# Altium footprint library FastServo.PcbLib: 2 footprints
Each footprint in its own frame and in the unit in brackets; x right, y up, seen from the top. Pads: shape width x height; smd on the part's side, far side on the other; paste and mask are expansions set on the pad; w line width, h text height; cw(c..) or ccw(c..) is an arc to the next point about the centre after c.
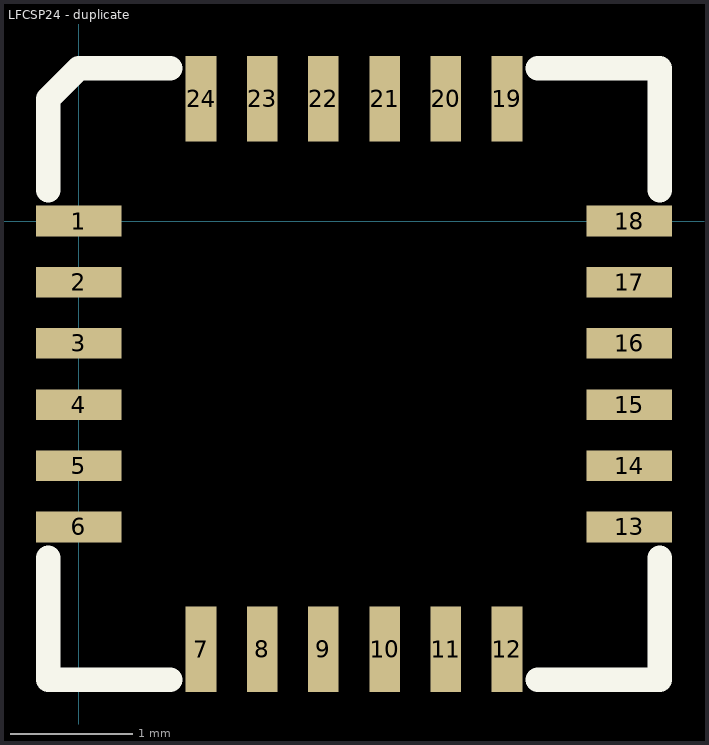
[diagram p0: the footprints below, top view; thin cyan lines are the x and y axes]

## LFCSP24 [mm] "LFCSP24"

## LFCSP24 - duplicate [mm]
pads (24):
  rect 0.7x0.25 smd: 1(0,0) 2(0,-0.5) 3(0,-1) 4(0,-1.5) 5(0,-2) 6(0,-2.5) 13(4.5,-2.5) 14(4.5,-2) 15(4.5,-1.5) 16(4.5,-1) 17(4.5,-0.5) 18(4.5,0)
  rect 0.25x0.7 smd: 7(1,-3.5) 8(1.5,-3.5) 9(2,-3.5) 10(2.5,-3.5) 11(3,-3.5) 12(3.5,-3.5) 19(3.5,1) 20(3,1) 21(2.5,1) 22(2,1) 23(1.5,1) 24(1,1)
Top Overlay:
  lines w0.2: -0.25,-2.75 -0.25,-3.75 0.75,-3.75 ; -0.25,0.25 -0.25,1 0,1.25 0.75,1.25 ; 3.75,-3.75 4.75,-3.75 4.75,-2.75 ; 3.75,1.25 4.75,1.25 4.75,0.25